# EAGLE library part 686118183522 (library Eagle_FPC_CONNECTOR_AND_FFC_CAB (rev18c))
686118183522 WR-FPC 1.00mm SMT Horizontal Bottom Contact - Low Profile <http://katalog.we-online.de/media/images/v2/Family_WR-FPC_6861xx183522.jpg> Details see: http://katalog.we-online.de/en/em/FPC_1_00_SMT_ZIF_HORIZONTAL_BOTTOM_CONTACT_LOW_PROFILE_6861xx183522 Created by Yingchun,shan 2016 (C) Wurth Elektronik
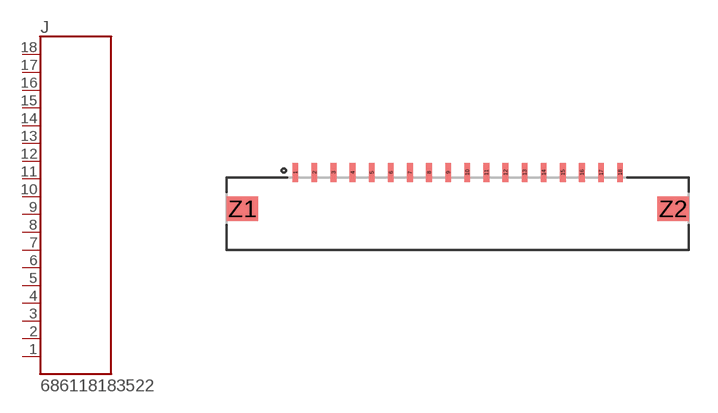
[diagram p163: symbol with the pads of 686118183522; footprint 686118183522]

Designator prefix J

## 686118183522  [686118183522]
1  18  pas
2  17  pas
3  16  pas
4  15  pas
5  14  pas
6  13  pas
7  12  pas
8  11  pas
9  10  pas
10  9  pas
11  8  pas
12  7  pas
13  6  pas
14  5  pas
15  4  pas
16  3  pas
17  2  pas
18  1  pas

## Footprint 686118183522 (pad centres in mm)
smd 0.3 x 1: 1 -8.5,1.9; 2 -7.5,1.9; 3 -6.5,1.9; 4 -5.5,1.9; 5 -4.5,1.9; 6 -3.5,1.9; 7 -2.5,1.9; 8 -1.5,1.9; 9 -0.5,1.9; 10 0.5,1.9; 11 1.5,1.9; 12 2.5,1.9; 13 3.5,1.9; 14 4.5,1.9; 15 5.5,1.9; 16 6.5,1.9; 17 7.5,1.9; 18 8.5,1.9
smd 1.65 x 1.3: Z1 -11.275,0; Z2 11.275,0